# Altium schematic symbol library Basic.SchLib: 197 symbols
Pins are listed as number, name and electrical type; pins without a type are passive.

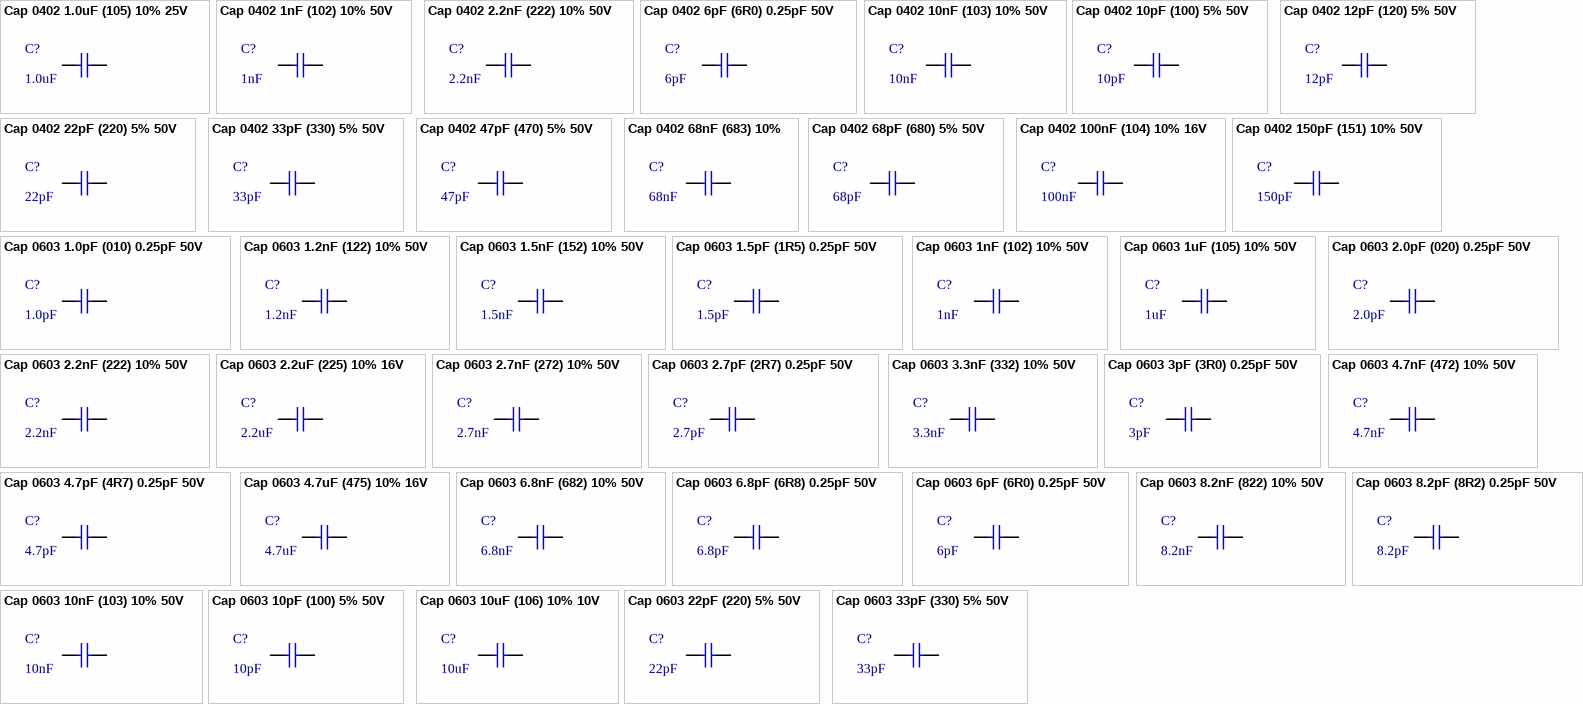
[diagram p0: symbols Cap 0402 1.0uF (105) 10% 25V to Cap 0603 33pF (330) 5% 50V]

## Cap 0402 1.0uF (105) 10% 25V
designator C?, comment 1.0uF
贴片电容; ComponentLink1Description: 供应商链接; ComponentLink1URL: http://www.szlcsc.com/product/details_53938.html; Package: 0402; Value: 1.0uF
footprint 0402_C
pins: 1, 2

## Cap 0402 1nF (102) 10% 50V
designator C?, comment 1nF
贴片电容; ComponentLink1Description: 供应商链接; ComponentLink1URL: http://www.szlcsc.com/product/details_1875.html; Package: 0402; Supplier: LC; SuppliersPartNumber: C1523; Value: 1nF
footprint 0402_C
pins: 1, 2

## Cap 0402 2.2nF (222) 10% 50V
designator C?, comment 2.2nF
贴片电容; ComponentLink1Description: 供应商链接; ComponentLink1URL: http://www.szlcsc.com/product/details_1883.html; Package: 0402; Value: 2.2nF
footprint 0402_C
pins: 1, 2

## Cap 0402 6pF (6R0) 0.25pF 50V
designator C?, comment 6pF
贴片电容; ComponentLink1Description: 供应商链接; ComponentLink1URL: http://www.szlcsc.com/product/details_31031.html; Package: 0402; Supplier: LC; SuppliersPartNumber: C30274
footprint 0402_C
pins: 1, 2

## Cap 0402 10nF (103) 10% 50V
designator C?, comment 10nF
贴片电容; ComponentLink1Description: 供应商链接; ComponentLink1URL: http://www.szlcsc.com/product/details_15869.html; Package: 0402; Supplier: LC; SuppliersPartNumber: C15195; Value: 10nF
footprint 0402_C
pins: 1, 2

## Cap 0402 10pF (100) 5% 50V
designator C?, comment 10pF
贴片电容; ComponentLink1Description: 供应商链接; ComponentLink1URL: http://www.szlcsc.com/product/details_33914.html; Package: 0402; Supplier: LC; SuppliersPartNumber: C32949
footprint 0402_C
pins: 1, 2

## Cap 0402 12pF (120) 5% 50V
designator C?, comment 12pF
贴片电容; ComponentLink1Description: 供应商链接; ComponentLink1URL: http://www.szlcsc.com/product/details_1899.html; Package: 0402; Supplier: LC; SuppliersPartNumber: C1547; Value: 12pF
footprint 0402_C
pins: 1, 2

## Cap 0402 22pF (220) 5% 50V
designator C?, comment 22pF
贴片电容; ComponentLink1Description: 供应商链接; ComponentLink1URL: http://www.szlcsc.com/product/details_1907.html; Package: 0402; Supplier: LC; SuppliersPartNumber: C1555
footprint 0402_C
pins: 1, 2

## Cap 0402 33pF (330) 5% 50V
designator C?, comment 33pF
贴片电容; ComponentLink1Description: 供应商链接; ComponentLink1URL: http://www.szlcsc.com/product/details_1914.html; Package: 0402; Supplier: LC; SuppliersPartNumber: C1562
footprint 0402_C
pins: 1, 2

## Cap 0402 47pF (470) 5% 50V
designator C?, comment 47pF
贴片电容; ComponentLink1Description: 供应商链接; ComponentLink1URL: http://www.szlcsc.com/product/details_1919.html; Package: 0402; Supplier: LC; SuppliersPartNumber: C1567; Value: 47pF
footprint 0402_C
pins: 1, 2

## Cap 0402 68nF (683) 10%
designator C?, comment 68nF
贴片电容; ComponentLink1Description: 供应商链接; ComponentLink1URL: http://www.szlcsc.com/product/details_2108.html; Package: 0402; Supplier: LC; SuppliersPartNumber: C1756; Value: 68nF
footprint 0402_C
pins: 1, 2

## Cap 0402 68pF (680) 5% 50V
designator C?, comment 68pF
贴片电容; ComponentLink1Description: 供应商链接; ComponentLink1URL: http://www.szlcsc.com/product/details_15103.html; Package: 0402; Supplier: LC; SuppliersPartNumber: C14441; Value: 68pF
footprint 0402_C
pins: 1, 2

## Cap 0402 100nF (104) 10% 16V
designator C?, comment 100nF
贴片电容; ComponentLink1Description: 供应商链接; ComponentLink1URL: http://www.szlcsc.com/product/details_1877.html; Package: 0402; Supplier: LC; SuppliersPartNumber: C1525
footprint 0402_C
pins: 1, 2

## Cap 0402 150pF (151) 10% 50V
designator C?, comment 150pF
贴片电容; ComponentLink1Description: 供应商链接; ComponentLink1URL: http://www.szlcsc.com/product/details_1879.html; Package: 0402; Supplier: LC; SuppliersPartNumber: C1527; Value: 150pF
footprint 0402_C
pins: 1, 2

## Cap 0603 1.0pF (010) 0.25pF 50V
designator C?, comment 1.0pF
贴片电容; ComponentLink1Description: 供应商链接; ComponentLink1URL: http://www.szlcsc.com/product/details_24709.html; Package: 0603; Supplier: LC; SuppliersPartNumber: C23969
footprint 0603_C
pins: 1, 2

## Cap 0603 1.2nF (122) 10% 50V
designator C?, comment 1.2nF
贴片电容; ComponentLink1Description: 供应商链接; ComponentLink1URL: http://www.szlcsc.com/product/details_31372.html; Package: 0603; Supplier: LC; SuppliersPartNumber: C30615
footprint 0603_C
pins: 1, 2

## Cap 0603 1.5nF (152) 10% 50V
designator C?, comment 1.5nF
贴片电容; ComponentLink1Description: 供应商链接; ComponentLink1URL: http://www.szlcsc.com/product/details_1947.html; Package: 0603; Supplier: LC; SuppliersPartNumber: C1595
footprint 0603_C
pins: 1, 2

## Cap 0603 1.5pF (1R5) 0.25pF 50V
designator C?, comment 1.5pF
贴片电容; ComponentLink1Description: 供应商链接; ComponentLink1URL: http://www.szlcsc.com/product/details_1991.html; Package: 0603; Supplier: LC; SuppliersPartNumber: C1639
footprint 0603_C
pins: 1, 2

## Cap 0603 1nF (102) 10% 50V
designator C?, comment 1nF
贴片电容; ComponentLink1Description: 供应商链接; ComponentLink1URL: http://www.szlcsc.com/product/details_1940.html; Package: 0603; Supplier: LC; SuppliersPartNumber: C1588
footprint 0603_C
pins: 1, 2

## Cap 0603 1uF (105) 10% 50V
designator C?, comment 1uF
贴片电容; ComponentLink1Description: 供应商链接; ComponentLink1URL: http://www.szlcsc.com/product/details_16531.html; Package: 0603; Supplier: LC; SuppliersPartNumber: C15849
footprint 0603_C
pins: 1, 2

## Cap 0603 2.0pF (020) 0.25pF 50V
designator C?, comment 2.0pF
贴片电容; ComponentLink1Description: 供应商链接; ComponentLink1URL: http://www.szlcsc.com/product/details_22617.html; Package: 0603; Supplier: LC; SuppliersPartNumber: C21895
footprint 0603_C
pins: 1, 2

## Cap 0603 2.2nF (222) 10% 50V
designator C?, comment 2.2nF
贴片电容; ComponentLink1Description: 供应商链接; ComponentLink1URL: http://www.szlcsc.com/product/details_1956.html; Package: 0603; Supplier: LC; SuppliersPartNumber: C1604
footprint 0603_C
pins: 1, 2

## Cap 0603 2.2uF (225) 10% 16V
designator C?, comment 2.2uF
贴片电容; ComponentLink1Description: 供应商链接; ComponentLink1URL: http://www.szlcsc.com/product/details_24366.html; Package: 0603; Supplier: LC; SuppliersPartNumber: C23630
footprint 0603_C
pins: 1, 2

## Cap 0603 2.7nF (272) 10% 50V
designator C?, comment 2.7nF
贴片电容; ComponentLink1Description: 供应商链接; ComponentLink1URL: http://www.szlcsc.com/product/details_1961.html; Package: 0603; Supplier: LC; SuppliersPartNumber: C1609
footprint 0603_C
pins: 1, 2

## Cap 0603 2.7pF (2R7) 0.25pF 50V
designator C?, comment 2.7pF
贴片电容; ComponentLink1Description: 供应商链接; ComponentLink1URL: http://www.szlcsc.com/product/details_16831.html; Package: 0603; Supplier: LC; SuppliersPartNumber: C16149
footprint 0603_C
pins: 1, 2

## Cap 0603 3.3nF (332) 10% 50V
designator C?, comment 3.3nF
贴片电容; ComponentLink1Description: 供应商链接; ComponentLink1URL: http://www.szlcsc.com/product/details_1965.html; Package: 0603; Supplier: LC; SuppliersPartNumber: C1613
footprint 0603_C
pins: 1, 2

## Cap 0603 3pF (3R0) 0.25pF 50V
designator C?, comment 3pF
贴片电容; ComponentLink1Description: 供应商链接; ComponentLink1URL: http://www.szlcsc.com/product/details_47222.html; Package: 0603; Supplier: LC; SuppliersPartNumber: C46219
footprint 0603_C
pins: 1, 2

## Cap 0603 4.7nF (472) 10% 50V
designator C?, comment 4.7nF
贴片电容; ComponentLink1Description: 供应商链接; ComponentLink1URL: http://www.szlcsc.com/product/details_55004.html; Package: 0603; Supplier: LC; SuppliersPartNumber: C53987
footprint 0603_C
pins: 1, 2

## Cap 0603 4.7pF (4R7) 0.25pF 50V
designator C?, comment 4.7pF
贴片电容; ComponentLink1Description: 供应商链接; ComponentLink1URL: http://www.szlcsc.com/product/details_2021.html; Package: 0603; Supplier: LC; SuppliersPartNumber: C1669
footprint 0603_C
pins: 1, 2

## Cap 0603 4.7uF (475) 10% 16V
designator C?, comment 4.7uF
贴片电容; ComponentLink1Description: 供应商链接; ComponentLink1URL: http://www.szlcsc.com/product/details_20375.html; Package: 0603; Supplier: LC; SuppliersPartNumber: C19666
footprint 0603_C
pins: 1, 2

## Cap 0603 6.8nF (682) 10% 50V
designator C?, comment 6.8nF
贴片电容; ComponentLink1Description: 供应商链接; ComponentLink1URL: http://www.szlcsc.com/product/details_1983.html; Package: 0603; Supplier: LC; SuppliersPartNumber: C1631
footprint 0603_C
pins: 1, 2

## Cap 0603 6.8pF (6R8) 0.25pF 50V
designator C?, comment 6.8pF
贴片电容; ComponentLink1Description: 供应商链接; ComponentLink1URL: http://www.szlcsc.com/product/details_2031.html; Package: 0603; Supplier: LC; SuppliersPartNumber: C1679
footprint 0603_C
pins: 1, 2

## Cap 0603 6pF (6R0) 0.25pF 50V
designator C?, comment 6pF
贴片电容; ComponentLink1Description: 供应商链接; ComponentLink1URL: http://www.szlcsc.com/product/details_38453.html; Package: 0603; Supplier: LC; SuppliersPartNumber: C37474
footprint 0603_C
pins: 1, 2

## Cap 0603 8.2nF (822) 10% 50V
designator C?, comment 8.2nF
贴片电容; ComponentLink1Description: 供应商链接; ComponentLink1URL: http://www.szlcsc.com/product/details_28670.html; Package: 0603; Supplier: LC; SuppliersPartNumber: C27920
footprint 0603_C
pins: 1, 2

## Cap 0603 8.2pF (8R2) 0.25pF 50V
designator C?, comment 8.2pF
贴片电容; ComponentLink1Description: 供应商链接; ComponentLink1URL: http://www.szlcsc.com/product/details_2037.html; Package: 0603; Supplier: LC; SuppliersPartNumber: C1685
footprint 0603_C
pins: 1, 2

## Cap 0603 10nF (103) 10% 50V
designator C?, comment 10nF
贴片电容; ComponentLink1Description: 供应商链接; ComponentLink1URL: http://www.szlcsc.com/product/details_58143.html; Package: 0603; Supplier: LC; SuppliersPartNumber: C57112
footprint 0603_C
pins: 1, 2

## Cap 0603 10pF (100) 5% 50V
designator C?, comment 10pF
贴片电容; ComponentLink1Description: 供应商链接; ComponentLink1URL: http://www.szlcsc.com/product/details_1986.html; Package: 0603; Supplier: LC; SuppliersPartNumber: C1634
footprint 0603_C
pins: 1, 2

## Cap 0603 10uF (106) 10% 10V
designator C?, comment 10uF
贴片电容; ComponentLink1Description: 供应商链接; ComponentLink1URL: http://www.szlcsc.com/product/details_20411.html; Package: 0603; Supplier: LC; SuppliersPartNumber: C19702
footprint 0603_C
pins: 1, 2

## Cap 0603 22pF (220) 5% 50V
designator C?, comment 22pF
贴片电容; ComponentLink1Description: 供应商链接; ComponentLink1URL: http://www.szlcsc.com/product/details_2005.html; Package: 0603; Supplier: LC; SuppliersPartNumber: C1653
footprint 0603_C
pins: 1, 2

## Cap 0603 33pF (330) 5% 50V
designator C?, comment 33pF
贴片电容; ComponentLink1Description: 供应商链接; ComponentLink1URL: http://www.szlcsc.com/product/details_2015.html; Package: 0603; Supplier: LC; SuppliersPartNumber: C1663
footprint 0603_C
pins: 1, 2

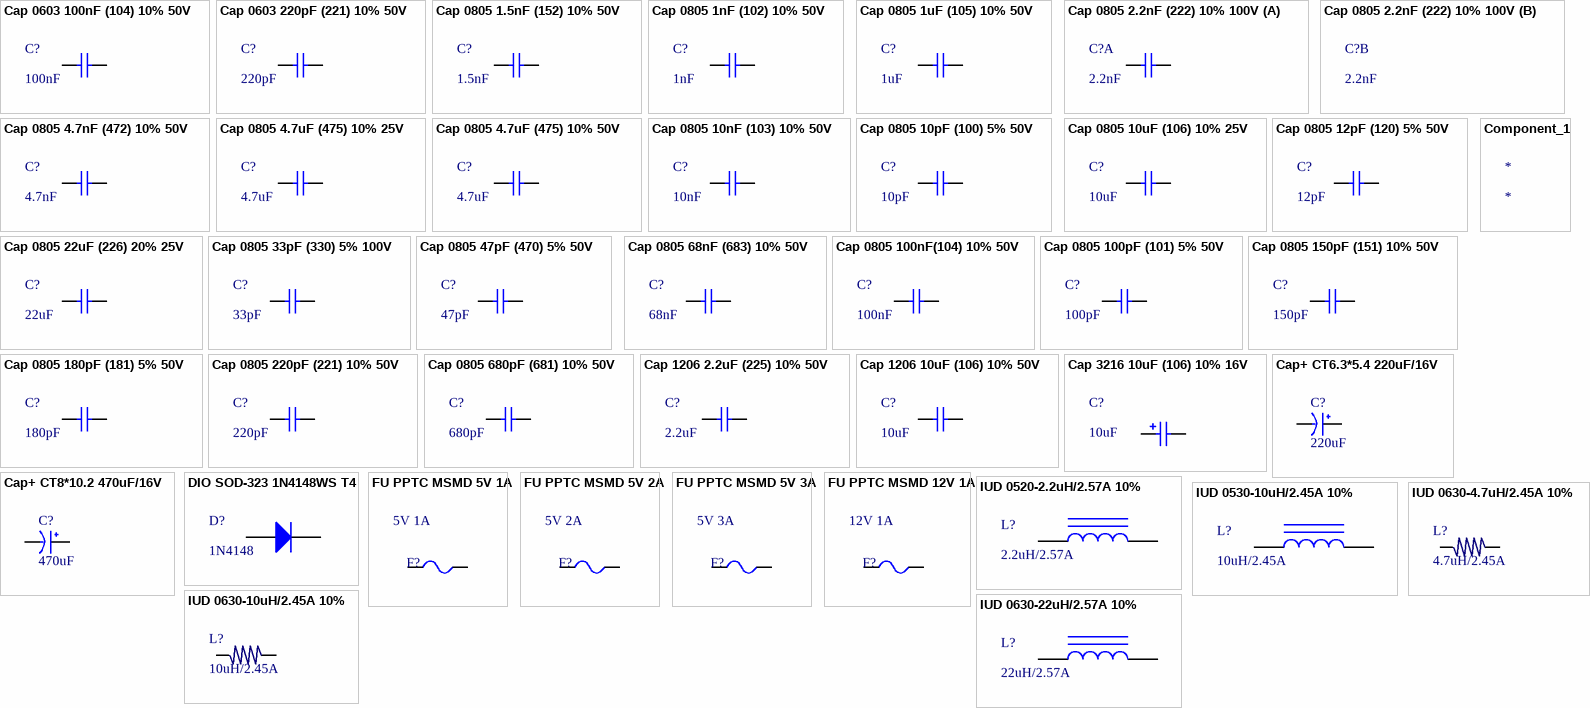
[diagram p1: symbols Cap 0603 100nF (104) 10% 50V to IUD 0630-22uH/2.57A 10%]

## Cap 0603 100nF (104) 10% 50V
designator C?, comment 100nF
贴片电容; ComponentLink1Description: 供应商链接; ComponentLink1URL: http://www.szlcsc.com/product/details_15331.html; Package: 0603; Supplier: LC; SuppliersPartNumber: C14663
footprint 0603_C
pins: 1, 2

## Cap 0603 220pF (221) 10% 50V
designator C?, comment 220pF
贴片电容; ComponentLink1Description: 供应商链接; ComponentLink1URL: http://www.szlcsc.com/product/details_1955.html; Package: 0603; Supplier: LC; SuppliersPartNumber: C1603
footprint 0603_C
pins: 1, 2

## Cap 0805 1.5nF (152) 10% 50V
designator C?, comment 1.5nF
贴片电容; ComponentLink1Description: 供应商链接; ComponentLink1URL: http://www.szlcsc.com/product/details_2069.html; Package: 0805; Supplier: LC; SuppliersPartNumber: C1717; Value: 1.5nF
footprint 0805_C
pins: 1, 2

## Cap 0805 1nF (102) 10% 50V
designator C?, comment 1nF
贴片电容; ComponentLink1Description: 供应商链接; ComponentLink1URL: http://www.szlcsc.com/product/details_52223.html; Package: 0805; Value: 1nF
footprint 0805_C
pins: 1, 2

## Cap 0805 1uF (105) 10% 50V
designator C?, comment 1uF
贴片电容; ComponentLink1Description: 供应商链接; ComponentLink1URL: http://www.szlcsc.com/product/details_29074.html; Package: 0805; Supplier: LC; SuppliersPartNumber: C28323
footprint 0805_C
pins: 1, 2

## Cap 0805 2.2nF (222) 10% 100V
designator C?, comment 2.2nF
贴片电容; ComponentLink1Description: 供应商链接; ComponentLink1URL: http://www.szlcsc.com/product/details_29010.html; Package: 0805; Supplier: LC; SuppliersPartNumber: C28260; Value: 2.2nF
footprint 0805_C
part A pins: 1, 2

## Cap 0805 4.7nF (472) 10% 50V
designator C?, comment 4.7nF
贴片电容; ComponentLink1Description: 供应商链接; ComponentLink1URL: http://www.szlcsc.com/product/details_2096.html; Package: 0805; Supplier: LC; SuppliersPartNumber: C1744
footprint 0805_C
pins: 1, 2

## Cap 0805 4.7uF (475) 10% 25V
designator C?, comment 4.7uF
贴片电容; Value: 4.7uF/25V; ComponentLink1Description: 供应商链接; ComponentLink1URL: http://www.szlcsc.com/product/details_2131.html; Package: 0805; Supplier: LC; SuppliersPartNumber: C1779
footprint 0805_C
pins: 1, 2

## Cap 0805 4.7uF (475) 10% 50V
designator C?, comment 4.7uF
贴片电容; Value: 4.7uF/50V; ComponentLink1Description: 供应商链接; ComponentLink1URL: http://www.szlcsc.com/product/details_2131.html; Package: 0805; Supplier: LC; SuppliersPartNumber: C1779
footprint 0805_C
pins: 1, 2

## Cap 0805 10nF (103) 10% 50V
designator C?, comment 10nF
贴片电容; ComponentLink1Description: 供应商链接; ComponentLink1URL: http://www.szlcsc.com/product/details_2062.html; Package: 0805; Supplier: LC; SuppliersPartNumber: C1710; Value: 10nF
footprint 0805_C
pins: 1, 2

## Cap 0805 10pF (100) 5% 50V
designator C?, comment 10pF
贴片电容; ComponentLink1Description: 供应商链接; ComponentLink1URL: http://www.szlcsc.com/product/details_2137.html; Package: 0805; Supplier: LC; SuppliersPartNumber: C1785; Value: 10pF
footprint 0805_C
pins: 1, 2

## Cap 0805 10uF (106) 10% 25V
designator C?, comment 10uF
贴片电容; ComponentLink1Description: 供应商链接; ComponentLink1URL: http://www.szlcsc.com/product/details_16532.html; Package: 0805; Supplier: LC; SuppliersPartNumber: C15850; Value: 10uF
footprint 0805_C
pins: 1, 2

## Cap 0805 12pF (120) 5% 50V
designator C?, comment 12pF
贴片电容; ComponentLink1Description: 供应商链接; ComponentLink1URL: http://www.szlcsc.com/product/details_2144.html; Package: 0805; Supplier: LC; SuppliersPartNumber: C1792
footprint 0805_C
pins: 1, 2

## Cap 0805 22uF (226) 20% 25V
designator C?, comment 22uF
贴片电容; ComponentLink1Description: 供应商链接; ComponentLink1URL: http://www.szlcsc.com/product/details_46786.html; Package: 0805; Supplier: LC; SuppliersPartNumber: C45783
footprint 0805_C
pins: 1, 2

## Cap 0805 33pF (330) 5% 100V
designator C?, comment 33pF
贴片电容; ComponentLink1Description: 供应商链接; ComponentLink1URL: http://www.szlcsc.com/product/details_2166.html; Package: 0805; Supplier: LC; SuppliersPartNumber: C1814; Value: 33pF
footprint 0805_C
pins: 1, 2

## Cap 0805 47pF (470) 5% 50V
designator C?, comment 47pF
贴片电容; ComponentLink1Description: 供应商链接; ComponentLink1URL: http://www.szlcsc.com/product/details_15529.html; Package: 0805; Value: 47pF
footprint 0805_C
pins: 1, 2

## Cap 0805 68nF (683) 10% 50V
designator C?, comment 68nF
贴片电容; ComponentLink1Description: 供应商链接; ComponentLink1URL: http://www.szlcsc.com/product/details_2108.html; Package: 0805; Supplier: LC; SuppliersPartNumber: C1756; Value: 68nF
footprint 0805_C
pins: 1, 2

## Cap 0805 100nF(104) 10% 50V
designator C?, comment 100nF
贴片电容; ComponentLink1Description: 供应商链接; ComponentLink1URL: http://www.szlcsc.com/product/details_50686.html; Package: 0805; Supplier: LC; SuppliersPartNumber: C49678; Value: 100nF
footprint 0805_C
pins: 1, 2

## Cap 0805 100pF (101) 5% 50V
designator C?, comment 100pF
贴片电容; ComponentLink1Description: 供应商链接; ComponentLink1URL: http://www.szlcsc.com/product/details_2142.html; Package: 0805; Supplier: LC; SuppliersPartNumber: C1790
footprint 0805_C
pins: 1, 2

## Cap 0805 150pF (151) 10% 50V
designator C?, comment 150pF
贴片电容; ComponentLink1Description: 供应商链接; ComponentLink1URL: http://www.szlcsc.com/product/details_2068.html; Package: 0805; Value: 150pF
footprint 0805_C
pins: 1, 2

## Cap 0805 180pF (181) 5% 50V
designator C?, comment 180pF
贴片电容; ComponentLink1Description: 供应商链接; ComponentLink1URL: http://www.szlcsc.com/product/details_2149.html; Package: 0805; Supplier: LC; SuppliersPartNumber: C1797; Value: 180pF
footprint 0805_C
pins: 1, 2

## Cap 0805 220pF (221) 10% 50V
designator C?, comment 220pF
贴片电容; ComponentLink1Description: 供应商链接; ComponentLink1URL: http://www.szlcsc.com/product/details_54188.html; Package: 0805; Supplier: LC; SuppliersPartNumber: C53172; Value: 220pF
footprint 0805_C
pins: 1, 2

## Cap 0805 680pF (681) 10% 50V
designator C?, comment 680pF
贴片电容; ComponentLink1Description: 供应商链接; ComponentLink1URL: http://www.szlcsc.com/product/details_54166.html; Package: 0805; Value: 680pF
footprint 0805_C
pins: 1, 2

## Cap 1206 2.2uF (225) 10% 50V
designator C?, comment 2.2uF
贴片电容; ComponentLink1Description: 供应商链接; ComponentLink1URL: http://www.szlcsc.com/product/details_13292.html; Package: 1206; Supplier: LC; SuppliersPartNumber: C12656; Value: 2.2uF
footprint 1206_C
pins: 1, 2

## Cap 1206 10uF (106) 10% 50V
designator C?, comment 10uF
贴片电容; ComponentLink1Description: 供应商链接; ComponentLink1URL: http://www.szlcsc.com/product/details_14236.html; Package: 1206; Supplier: LC; SuppliersPartNumber: C13585
footprint 1206_C
pins: 1, 2

## Cap 3216 10uF (106) 10% 16V
designator C?, comment 10uF
钽电容; ComponentLink1Description: 供应商链接; ComponentLink1URL: http://www.szlcsc.com/product/details_7643.html; Package: 3216; Supplier: LC; SuppliersPartNumber: C7171
footprint CASE-A_3216
pins: 1, 2

## Cap+ CT6.3*5.4 220uF/16V
designator C?, comment 220uF
电解电容
footprint CT 6*6 - C (直径6mm，高6mm)
pins: 1 VCC, 2 GND

## Cap+ CT8*10.2 470uF/16V
designator C?, comment 470uF
电解电容
footprint CT 8*7 - C (直径8mm，高7mm)
pins: 1 VCC, 2 GND

## Component_1
designator *

## DIO SOD-323 1N4148WS T4
designator D?, comment 1N4148
二极管; ComponentLink1Description: 供应商链接; ComponentLink1URL: http://www.szlcsc.com/product/details_2485.html; Package: SOD-323; Supplier: LC; SuppliersPartNumber: C2128
footprint SOD-323
pins: 1 A, 2 K

## FU PPTC MSMD 5V 1A
designator F?, comment 5V 1A
自恢复保险丝; BOM名称: 贴片保险丝; 版权归属: 源创客; 学习资源: www.ooocke.com
footprint FU 0402 (贴片保险丝)
footprint FU 0603 (贴片保险丝)
footprint FU 0805 (贴片保险丝)
footprint FU 1206 (贴片保险丝)
footprint FU 1210 (贴片保险丝)
footprint FU 1812 (贴片保险丝)
pins: 1, 2

## FU PPTC MSMD 5V 2A
designator F?, comment 5V 2A
自恢复保险丝; BOM名称: 贴片保险丝; 版权归属: 源创客; 学习资源: www.ooocke.com
footprint FU 0402 (贴片保险丝)
footprint FU 0603 (贴片保险丝)
footprint FU 0805 (贴片保险丝)
footprint FU 1206 (贴片保险丝)
footprint FU 1210 (贴片保险丝)
footprint FU 1812 (贴片保险丝)
pins: 1, 2

## FU PPTC MSMD 5V 3A
designator F?, comment 5V 3A
自恢复保险丝; BOM名称: 贴片保险丝; 版权归属: 源创客; 学习资源: www.ooocke.com
footprint FU 0402 (贴片保险丝)
footprint FU 0603 (贴片保险丝)
footprint FU 0805 (贴片保险丝)
footprint FU 1206 (贴片保险丝)
footprint FU 1210 (贴片保险丝)
footprint FU 1812 (贴片保险丝)
pins: 1, 2

## FU PPTC MSMD 12V 1A
designator F?, comment 12V 1A
自恢复保险丝; BOM名称: 贴片保险丝; 版权归属: 源创客; 学习资源: www.ooocke.com
footprint FU 0402 (贴片保险丝)
footprint FU 0603 (贴片保险丝)
footprint FU 0805 (贴片保险丝)
footprint FU 1206 (贴片保险丝)
footprint FU 1210 (贴片保险丝)
footprint FU 1812 (贴片保险丝)
pins: 1, 2

## IUD 0520-2.2uH/2.57A 10%
designator L?, comment 2.2uH/2.57A
一体成型贴片电感; ComponentLink1Description: 供应商链接; ComponentLink1URL: http://www.szlcsc.com/product/details_1387.html; Value: 2.2uH/2.57A
footprint L_0520_ (AMPI053 0ED; 5.2*5.4*2.8)
pins: 1, 2

## IUD 0530-10uH/2.45A 10%
designator L?, comment 10uH/2.45A
一体成型贴片电感; ComponentLink1Description: 供应商链接; ComponentLink1URL: http://www.szlcsc.com/product/details_12684.html; Value: 10uH/2.45A
footprint L_0530 (AMPI063 0ED; 6.6*7.1*0.3)
pins: 1, 2

## IUD 0630-4.7uH/2.45A 10%
designator L?, comment 4.7uH/2.45A
一体成型贴片电感; Value: 10uH/2.45A; ComponentLink1Description: 供应商链接; ComponentLink1URL: http://www.szlcsc.com/product/details_12684.html
footprint L_0630 (AMPI063 0ED; 6.6*7.1*0.3)
pins: 1, 2

## IUD 0630-10uH/2.45A 10%
designator L?, comment 10uH/2.45A
一体成型贴片电感; ComponentLink1Description: 供应商链接; ComponentLink1URL: http://www.szlcsc.com/product/details_12684.html; Value: 10uH/2.45A
footprint L_0630 (AMPI063 0ED; 6.6*7.1*0.3)
pins: 1, 2

## IUD 0630-22uH/2.57A 10%
designator L?, comment 22uH/2.57A
一体成型贴片电感; ComponentLink1Description: 供应商链接; ComponentLink1URL: http://www.szlcsc.com/product/details_1387.html; Value: 22uH/2.57A
footprint L_0630 (AMPI063 0ED; 6.6*7.1*0.3)
pins: 1, 2

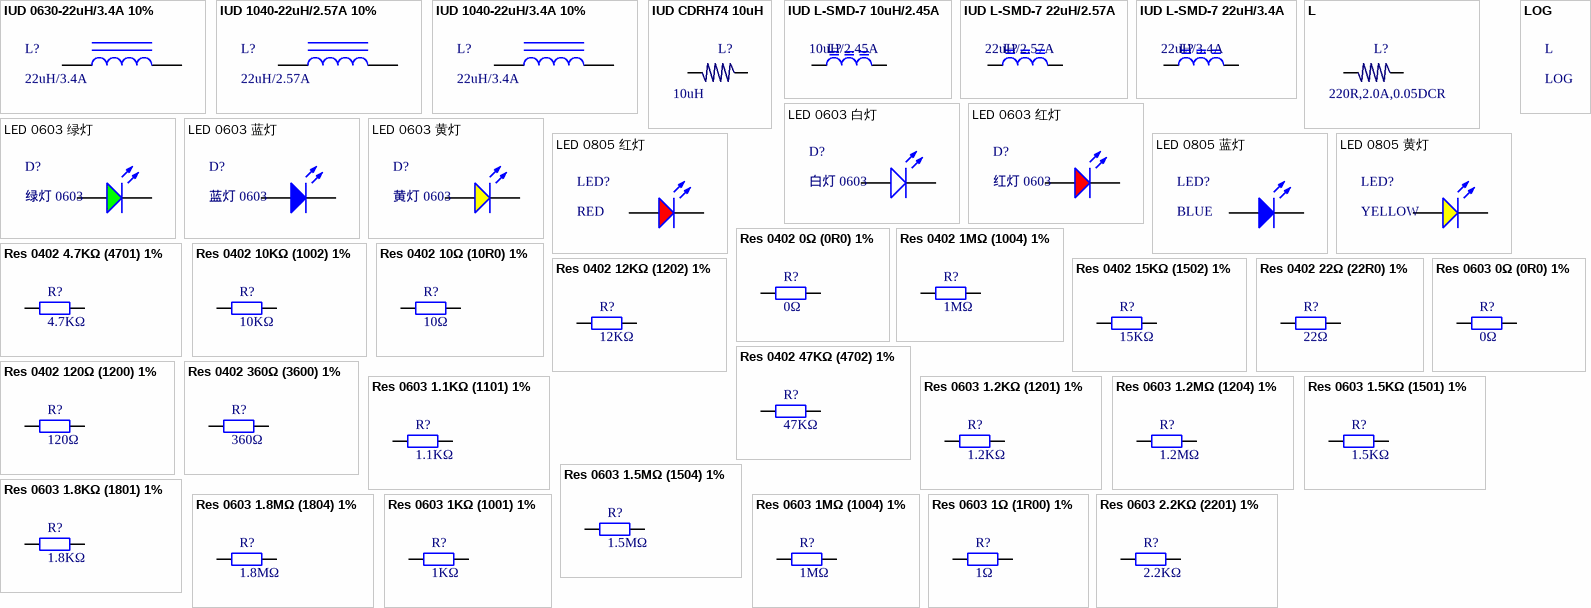
[diagram p2: symbols IUD 0630-22uH/3.4A 10% to Res 0603 2.2KΩ (2201) 1%]

## IUD 0630-22uH/3.4A 10%
designator L?, comment 22uH/3.4A
一体成型贴片电感; ComponentLink1Description: 供应商链接; ComponentLink1URL: http://www.szlcsc.com/product/details_1387.html; Value: 22uH/3.4A
footprint L_0630 (AMPI063 0ED; 6.6*7.1*0.3)
pins: 1, 2

## IUD 1040-22uH/2.57A 10%
designator L?, comment 22uH/2.57A
一体成型贴片电感; ComponentLink1Description: 供应商链接; ComponentLink1URL: http://www.szlcsc.com/product/details_1387.html; Value: 22uH/2.57A
footprint L_1040 (AMPI104 0ED; 10*11.5*3.8)
pins: 1, 2

## IUD 1040-22uH/3.4A 10%
designator L?, comment 22uH/3.4A
一体成型贴片电感; ComponentLink1Description: 供应商链接; ComponentLink1URL: http://www.szlcsc.com/product/details_1387.html; Value: 22uH/3.4A
footprint L_1040 (AMPI104 0ED; 10*11.5*3.8)
pins: 1, 2

## IUD CDRH74 10uH
designator L?, comment 10uH
IUD CDRH74 10uH
footprint CDRH74 (7.3*7.3*4.5mm（长宽高）)
pins: 1, 2

## IUD L-SMD-7 10uH/2.45A
designator L?, comment 10uH/2.45A
电感; Code_IEC: 1005; Published: 8-Jun-2000; LatestRevisionDate: 17-Jul-2002; LatestRevisionNote: Re-released for DXP Platform.; PackageReference: 0402-A; Publisher: Altium Limited; Code_JEITA: 0402; Value: 10uH/2.45A
footprint L-SMD-7 (贴片电感7*7)
pins: 1, 2

## IUD L-SMD-7 22uH/2.57A
designator L?, comment 22uH/2.57A
电感; Code_IEC: 1005; Value: 10uH/2.45A; Published: 8-Jun-2000; LatestRevisionDate: 17-Jul-2002; LatestRevisionNote: Re-released for DXP Platform.; PackageReference: 0402-A; Publisher: Altium Limited; Code_JEITA: 0402
footprint L-SMD-7 (贴片电感7*7)
pins: 1, 2

## IUD L-SMD-7 22uH/3.4A
designator L?, comment 22uH/3.4A
电感; Code_IEC: 1005; Published: 8-Jun-2000; LatestRevisionDate: 17-Jul-2002; LatestRevisionNote: Re-released for DXP Platform.; Publisher: Altium Limited; Code_JEITA: 0402; Value: 22uH/3.4A
footprint L-SMD-7 (贴片电感7*7)
pins: 1, 2

## L
designator L?, comment 220R,2.0A,0.05DCR
footprint L3A (L)
footprint L4.7
footprint L_USER (SELF_DEF)
footprint L10 (10mH)
footprint SMD7850
footprint 0805
footprint 1206
footprint L_SOPL (L_LARGE)
footprint L_CD43 (4mm*4mm)
footprint 0603P
footprint L_SOP4 (4mm*4mm*1.7mm)
pins: 1, 2

## LED 0603 白灯
designator D?, comment 白灯 0603
发光二极管; ComponentLink1Description: 供应商链接; ComponentLink1URL: http://www.szlcsc.com/product/details_2663.html; Package: 0603; Supplier: LC; SuppliersPartNumber: C2290
footprint 0603_LED_S1
pins: A, K

## LED 0603 红灯
designator D?, comment 红灯 0603
发光二极管; ComponentLink1Description: 供应商链接; ComponentLink1URL: http://www.szlcsc.com/product/details_2659.html; Package: 0603; Supplier: LC; SuppliersPartNumber: C2286
footprint 0603_LED_S1
pins: A, K

## LED 0603 绿灯
designator D?, comment 绿灯 0603
发光二极管; ComponentLink1Description: 供应商链接; ComponentLink1URL: http://www.szlcsc.com/product/details_73152.html; Package: 0603; Supplier: LC; SuppliersPartNumber: C72043
footprint 0603_LED_S1
pins: A, K

## LED 0603 蓝灯
designator D?, comment 蓝灯 0603
发光二极管; ComponentLink1Description: 供应商链接; ComponentLink1URL: http://www.szlcsc.com/product/details_73150.html; Package: 0603; Supplier: LC; SuppliersPartNumber: C72041
footprint 0603_LED_S1
pins: A, K

## LED 0603 黄灯
designator D?, comment 黄灯 0603
发光二极管; ComponentLink1Description: 供应商链接; ComponentLink1URL: http://www.szlcsc.com/product/details_73147.html; Package: 0603; Supplier: LC; SuppliersPartNumber: C72038
footprint 0603_LED_S1
pins: A, K

## LED 0805 红灯
designator LED?, comment RED
发光二极管; ComponentLink1Description: 供应商链接; ComponentLink1URL: http://www.szlcsc.com/product/details_2668.html; Package: 0805; Supplier: LC; SuppliersPartNumber: C2295
footprint 0805_LED_S1
pins: A, K

## LED 0805 蓝灯
designator LED?, comment BLUE
发光二极管; ComponentLink1Description: 供应商链接; ComponentLink1URL: http://www.szlcsc.com/product/details_2666.html; Package: 0805; Supplier: LC; SuppliersPartNumber: C2293
footprint 0805_LED_S1
pins: A, K

## LED 0805 黄灯
designator LED?, comment YELLOW
发光二极管; ComponentLink1Description: 供应商链接; ComponentLink1URL: http://www.szlcsc.com/product/details_2669.html; Package: 0805; Supplier: LC; SuppliersPartNumber: C2296
footprint 0805_LED_S1
pins: A, K

## LOG
designator L
footprint LOG_L

## Res 0402 0Ω (0R0) 1%
designator R?, comment 0Ω
贴片电阻; ComponentLink1Description: 供应商链接; ComponentLink1URL: http://www.szlcsc.com/product/details_17853.html; Package: 0402; Supplier: LC; SuppliersPartNumber: C17168; Value: 0Ω
footprint 0402_R
pins: 1, 2

## Res 0402 1MΩ (1004) 1%
designator R?, comment 1MΩ
贴片电阻; ComponentLink1Description: 供应商链接; ComponentLink1URL: http://www.szlcsc.com/product/details_26826.html; Package: 0402; Supplier: LC; SuppliersPartNumber: C26083; Value: 1MΩ
footprint 0402_R
pins: 1, 2

## Res 0402 4.7KΩ (4701) 1%
designator R?, comment 4.7KΩ
贴片电阻; ComponentLink1Description: 供应商链接; ComponentLink1URL: http://www.szlcsc.com/product/details_26643.html; Package: 0402; Supplier: LC; SuppliersPartNumber: C25900; Value: 4.7KΩ
footprint 0402_R
pins: 1, 2

## Res 0402 10KΩ (1002) 1%
designator R?, comment 10KΩ
贴片电阻; ComponentLink1Description: 供应商链接; ComponentLink1URL: http://www.szlcsc.com/product/details_26487.html; Package: 0402; Supplier: LC; SuppliersPartNumber: C25744; Value: 10KΩ
footprint 0402_R
pins: 1, 2

## Res 0402 10Ω (10R0) 1%
designator R?, comment 10Ω
贴片电阻; ComponentLink1Description: 供应商链接; ComponentLink1URL: http://www.szlcsc.com/product/details_25820.html; Package: 0402; Supplier: LC; SuppliersPartNumber: C25077
footprint 0402_R
pins: 1, 2

## Res 0402 12KΩ (1202) 1%
designator R?, comment 12KΩ
贴片电阻; ComponentLink1Description: 供应商链接; ComponentLink1URL: http://www.szlcsc.com/product/details_26495.html; Package: 0402; Supplier: LC; SuppliersPartNumber: C25752; Value: 12KΩ
footprint 0402_R
pins: 1, 2

## Res 0402 15KΩ (1502) 1%
designator R?, comment 15KΩ
贴片电阻; ComponentLink1Description: 供应商链接; ComponentLink1URL: http://www.szlcsc.com/product/details_26499.html; Package: 0402; Supplier: LC; SuppliersPartNumber: C25756
footprint 0402_R
pins: 1, 2

## Res 0402 22Ω (22R0) 1%
designator R?, comment 22Ω
贴片电阻; ComponentLink1Description: 供应商链接; ComponentLink1URL: http://www.szlcsc.com/product/details_25835.html; Package: 0402; Supplier: LC; SuppliersPartNumber: C25092; Value: 22Ω
footprint 0402_R
pins: 1, 2

## Res 0402 47KΩ (4702) 1%
designator R?, comment 47KΩ
贴片电阻; ComponentLink1Description: 供应商链接; ComponentLink1URL: http://www.szlcsc.com/product/details_26535.html; Package: 0402; Supplier: LC; SuppliersPartNumber: C25792
footprint 0402_R
pins: 1, 2

## Res 0402 120Ω (1200) 1%
designator R?, comment 120Ω
贴片电阻; ComponentLink1Description: 供应商链接; ComponentLink1URL: http://www.szlcsc.com/product/details_25822.html; Package: 0402; Supplier: LC; SuppliersPartNumber: C25079
footprint 0402_R
pins: 1, 2

## Res 0402 360Ω (3600) 1%
designator R?, comment 360Ω
贴片电阻; ComponentLink1Description: 供应商链接; ComponentLink1URL: http://www.szlcsc.com/product/details_25822.html; Package: 0402; Supplier: LC; SuppliersPartNumber: C25079
footprint 0402_R
pins: 1, 2

## Res 0603 0Ω (0R0) 1%
designator R?, comment 0Ω
贴片电阻; ComponentLink1Description: 供应商链接; ComponentLink1URL: http://www.szlcsc.com/product/details_21903.html; Package: 0603; Supplier: LC; SuppliersPartNumber: C21189
footprint 0603_R
pins: 1, 2

## Res 0603 1.1KΩ (1101) 1%
designator R?, comment 1.1KΩ
贴片电阻; ComponentLink1Description: 供应商链接; ComponentLink1URL: http://www.szlcsc.com/product/details_23491.html; Package: 0603; Supplier: LC; SuppliersPartNumber: C22764
footprint 0603_R
pins: 1, 2

## Res 0603 1.2KΩ (1201) 1%
designator R?, comment 1.2KΩ
贴片电阻; ComponentLink1Description: 供应商链接; ComponentLink1URL: http://www.szlcsc.com/product/details_23492.html; Package: 0603; Supplier: LC; SuppliersPartNumber: C22765
footprint 0603_R
pins: 1, 2

## Res 0603 1.2MΩ (1204) 1%
designator R?, comment 1.2MΩ
贴片电阻; ComponentLink1Description: 供应商链接; ComponentLink1URL: http://www.szlcsc.com/product/details_23493.html; Package: 0603; Supplier: LC; SuppliersPartNumber: C22766
footprint 0603_R
pins: 1, 2

## Res 0603 1.5KΩ (1501) 1%
designator R?, comment 1.5KΩ
贴片电阻; ComponentLink1Description: 供应商链接; ComponentLink1URL: http://www.szlcsc.com/product/details_23570.html; Package: 0603; Supplier: LC; SuppliersPartNumber: C22843
footprint 0603_R
pins: 1, 2

## Res 0603 1.5MΩ (1504) 1%
designator R?, comment 1.5MΩ
贴片电阻; ComponentLink1Description: 供应商链接; ComponentLink1URL: http://www.szlcsc.com/product/details_4579.html; Package: 0603; Supplier: LC; SuppliersPartNumber: C4172
footprint 0603_R
pins: 1, 2

## Res 0603 1.8KΩ (1801) 1%
designator R?, comment 1.8KΩ
贴片电阻; ComponentLink1Description: 供应商链接; ComponentLink1URL: http://www.szlcsc.com/product/details_4584.html; Package: 0603; Supplier: LC; SuppliersPartNumber: C4177
footprint 0603_R
pins: 1, 2

## Res 0603 1.8MΩ (1804) 1%
designator R?, comment 1.8MΩ
贴片电阻; ComponentLink1Description: 供应商链接; ComponentLink1URL: http://www.szlcsc.com/product/details_23579.html; Package: 0603; Supplier: LC; SuppliersPartNumber: C22852
footprint 0603_R
pins: 1, 2

## Res 0603 1KΩ (1001) 1%
designator R?, comment 1KΩ
贴片电阻; ComponentLink1Description: 供应商链接; ComponentLink1URL: http://www.szlcsc.com/product/details_21904.html; Package: 0603; Supplier: LC; SuppliersPartNumber: C21190
footprint 0603_R
pins: 1, 2

## Res 0603 1MΩ (1004) 1%
designator R?, comment 1MΩ
贴片电阻; ComponentLink1Description: 供应商链接; ComponentLink1URL: http://www.szlcsc.com/product/details_23662.html; Package: 0603; Supplier: LC; SuppliersPartNumber: C22935
footprint 0603_R
pins: 1, 2

## Res 0603 1Ω (1R00) 1%
designator R?, comment 1Ω
贴片电阻; ComponentLink1Description: 供应商链接; ComponentLink1URL: http://www.szlcsc.com/product/details_23663.html; Package: 0603; Supplier: LC; SuppliersPartNumber: C22936
footprint 0603_R
pins: 1, 2

## Res 0603 2.2KΩ (2201) 1%
designator R?, comment 2.2KΩ
贴片电阻; ComponentLink1Description: 供应商链接; ComponentLink1URL: http://www.szlcsc.com/product/details_4597.html; Package: 0603; Supplier: LC; SuppliersPartNumber: C4190
footprint 0603_R
pins: 1, 2

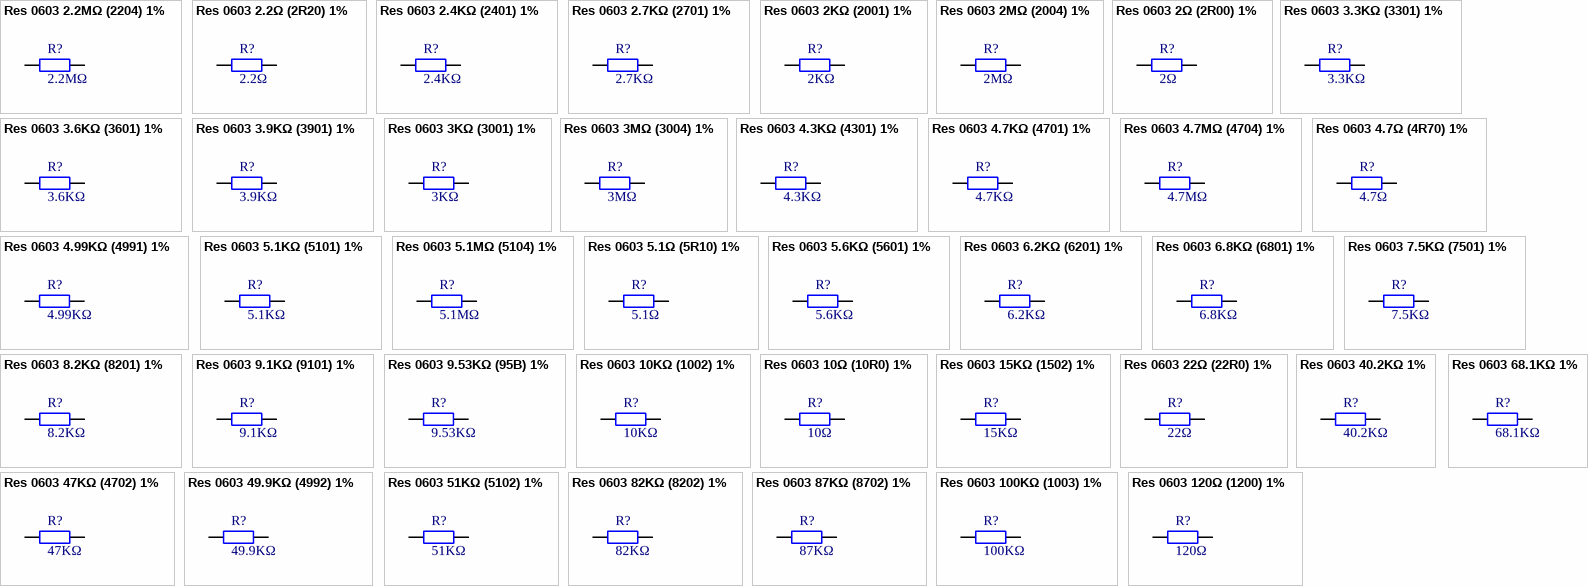
[diagram p3: symbols Res 0603 2.2MΩ (2204) 1% to Res 0603 120Ω (1200) 1%]

## Res 0603 2.2MΩ (2204) 1%
designator R?, comment 2.2MΩ
贴片电阻; ComponentLink1Description: 供应商链接; ComponentLink1URL: http://www.szlcsc.com/product/details_23665.html; Package: 0603; Supplier: LC; SuppliersPartNumber: C22938
footprint 0603_R
pins: 1, 2

## Res 0603 2.2Ω (2R20) 1%
designator R?, comment 2.2Ω
贴片电阻; ComponentLink1Description: 供应商链接; ComponentLink1URL: http://www.szlcsc.com/product/details_23666.html; Package: 0603; Supplier: LC; SuppliersPartNumber: C22939
footprint 0603_R
pins: 1, 2

## Res 0603 2.4KΩ (2401) 1%
designator R?, comment 2.4KΩ
贴片电阻; ComponentLink1Description: 供应商链接; ComponentLink1URL: http://www.szlcsc.com/product/details_23667.html; Package: 0603; Supplier: LC; SuppliersPartNumber: C22940
footprint 0603_R
pins: 1, 2

## Res 0603 2.7KΩ (2701) 1%
designator R?, comment 2.7KΩ
贴片电阻; ComponentLink1Description: 供应商链接; ComponentLink1URL: http://www.szlcsc.com/product/details_13814.html; Package: 0603; Supplier: LC; SuppliersPartNumber: C13167
footprint 0603_R
pins: 1, 2

## Res 0603 2KΩ (2001) 1%
designator R?, comment 2KΩ
贴片电阻; ComponentLink1Description: 供应商链接; ComponentLink1URL: http://www.szlcsc.com/product/details_23702.html; Package: 0603; Supplier: LC; SuppliersPartNumber: C22975
footprint 0603_R
pins: 1, 2

## Res 0603 2MΩ (2004) 1%
designator R?, comment 2MΩ
贴片电阻; ComponentLink1Description: 供应商链接; ComponentLink1URL: http://www.szlcsc.com/product/details_23703.html; Package: 0603; Supplier: LC; SuppliersPartNumber: C22976
footprint 0603_R
pins: 1, 2

## Res 0603 2Ω (2R00) 1%
designator R?, comment 2Ω
贴片电阻; ComponentLink1Description: 供应商链接; ComponentLink1URL: http://www.szlcsc.com/product/details_23704.html; Package: 0603; Supplier: LC; SuppliersPartNumber: C22977
footprint 0603_R
pins: 1, 2

## Res 0603 3.3KΩ (3301) 1%
designator R?, comment 3.3KΩ
贴片电阻; ComponentLink1Description: 供应商链接; ComponentLink1URL: http://www.szlcsc.com/product/details_23705.html; Package: 0603; Supplier: LC; SuppliersPartNumber: C22978
footprint 0603_R
pins: 1, 2

## Res 0603 3.6KΩ (3601) 1%
designator R?, comment 3.6KΩ
贴片电阻; ComponentLink1Description: 供应商链接; ComponentLink1URL: http://www.szlcsc.com/product/details_23707.html; Package: 0603; Supplier: LC; SuppliersPartNumber: C22980
footprint 0603_R
pins: 1, 2

## Res 0603 3.9KΩ (3901) 1%
designator R?, comment 3.9KΩ
贴片电阻; ComponentLink1Description: 供应商链接; ComponentLink1URL: http://www.szlcsc.com/product/details_23745.html; Package: 0603; Supplier: LC; SuppliersPartNumber: C23018
footprint 0603_R
pins: 1, 2

## Res 0603 3KΩ (3001) 1%
designator R?, comment 3KΩ
贴片电阻; ComponentLink1Description: 供应商链接; ComponentLink1URL: http://www.szlcsc.com/product/details_4618.html; Package: 0603; Supplier: LC; SuppliersPartNumber: C4211
footprint 0603_R
pins: 1, 2

## Res 0603 3MΩ (3004) 1%
designator R?, comment 3MΩ
贴片电阻; ComponentLink1Description: 供应商链接; ComponentLink1URL: http://www.szlcsc.com/product/details_23883.html; Package: 0603; Supplier: LC; SuppliersPartNumber: C23156
footprint 0603_R
pins: 1, 2

## Res 0603 4.3KΩ (4301) 1%
designator R?, comment 4.3KΩ
贴片电阻; ComponentLink1Description: 供应商链接; ComponentLink1URL: http://www.szlcsc.com/product/details_23886.html; Package: 0603; Supplier: LC; SuppliersPartNumber: C23159
footprint 0603_R
pins: 1, 2

## Res 0603 4.7KΩ (4701) 1%
designator R?, comment 4.7KΩ
贴片电阻; ComponentLink1Description: 供应商链接; ComponentLink1URL: http://www.szlcsc.com/product/details_23889.html; Package: 0603; Supplier: LC; SuppliersPartNumber: C23162
footprint 0603_R
pins: 1, 2

## Res 0603 4.7MΩ (4704) 1%
designator R?, comment 4.7MΩ
贴片电阻; ComponentLink1Description: 供应商链接; ComponentLink1URL: http://www.szlcsc.com/product/details_23890.html; Package: 0603; Supplier: LC; SuppliersPartNumber: C23163
footprint 0603_R
pins: 1, 2

## Res 0603 4.7Ω (4R70) 1%
designator R?, comment 4.7Ω
贴片电阻; ComponentLink1Description: 供应商链接; ComponentLink1URL: http://www.szlcsc.com/product/details_23891.html; Package: 0603; Supplier: LC; SuppliersPartNumber: C23164
footprint 0603_R
pins: 1, 2

## Res 0603 4.99KΩ (4991) 1%
designator R?, comment 4.99KΩ
贴片电阻; ComponentLink1Description: 供应商链接; ComponentLink1URL: http://www.szlcsc.com/product/details_23773.html; Package: 0603; Supplier: LC; SuppliersPartNumber: C23046
footprint 0603_R
pins: 1, 2

## Res 0603 5.1KΩ (5101) 1%
designator R?, comment 5.1KΩ
贴片电阻; ComponentLink1Description: 供应商链接; ComponentLink1URL: http://www.szlcsc.com/product/details_23913.html; Package: 0603; Supplier: LC; SuppliersPartNumber: C23186
footprint 0603_R
pins: 1, 2

## Res 0603 5.1MΩ (5104) 1%
designator R?, comment 5.1MΩ
贴片电阻; ComponentLink1Description: 供应商链接; ComponentLink1URL: http://www.szlcsc.com/product/details_13967.html; Package: 0603; Supplier: LC; SuppliersPartNumber: C13320
footprint 0603_R
pins: 1, 2

## Res 0603 5.1Ω (5R10) 1%
designator R?, comment 5.1Ω
贴片电阻; ComponentLink1Description: 供应商链接; ComponentLink1URL: http://www.szlcsc.com/product/details_25940.html; Package: 0603; Supplier: LC; SuppliersPartNumber: C25197
footprint 0603_R
pins: 1, 2

## Res 0603 5.6KΩ (5601) 1%
designator R?, comment 5.6KΩ
贴片电阻; ComponentLink1Description: 供应商链接; ComponentLink1URL: http://www.szlcsc.com/product/details_23916.html; Package: 0603; Supplier: LC; SuppliersPartNumber: C23189
footprint 0603_R
pins: 1, 2

## Res 0603 6.2KΩ (6201) 1%
designator R?, comment 6.2KΩ
贴片电阻; ComponentLink1Description: 供应商链接; ComponentLink1URL: http://www.szlcsc.com/product/details_4667.html; Package: 0603; Supplier: LC; SuppliersPartNumber: C4260
footprint 0603_R
pins: 1, 2

## Res 0603 6.8KΩ (6801) 1%
designator R?, comment 6.8KΩ
贴片电阻; ComponentLink1Description: 供应商链接; ComponentLink1URL: http://www.szlcsc.com/product/details_23939.html; Package: 0603; Supplier: LC; SuppliersPartNumber: C23212
footprint 0603_R
pins: 1, 2

## Res 0603 7.5KΩ (7501) 1%
designator R?, comment 7.5KΩ
贴片电阻; ComponentLink1Description: 供应商链接; ComponentLink1URL: http://www.szlcsc.com/product/details_23961.html; Package: 0603; Supplier: LC; SuppliersPartNumber: C23234
footprint 0603_R
pins: 1, 2

## Res 0603 8.2KΩ (8201) 1%
designator R?, comment 8.2KΩ
贴片电阻; ComponentLink1Description: 供应商链接; ComponentLink1URL: http://www.szlcsc.com/product/details_26724.html; Package: 0603; Supplier: LC; SuppliersPartNumber: C25981
footprint 0603_R
pins: 1, 2

## Res 0603 9.1KΩ (9101) 1%
designator R?, comment 9.1KΩ
贴片电阻; ComponentLink1Description: 供应商链接; ComponentLink1URL: http://www.szlcsc.com/product/details_23987.html; Package: 0603; Supplier: LC; SuppliersPartNumber: C23260
footprint 0603_R
pins: 1, 2

## Res 0603 9.53KΩ (95B) 1%
designator R?, comment 9.53KΩ
贴片电阻; ComponentLink1Description: 供应商链接; ComponentLink1URL: http://www.szlcsc.com/product/details_23886.html; Package: 0603; Supplier: LC; SuppliersPartNumber: C23159
footprint 0603_R
pins: 1, 2

## Res 0603 10KΩ (1002) 1%
designator R?, comment 10KΩ
贴片电阻; ComponentLink1Description: 供应商链接; ComponentLink1URL: http://www.szlcsc.com/product/details_26547.html; Package: 0603; Supplier: LC; SuppliersPartNumber: C25804
footprint 0603_R
pins: 1, 2

## Res 0603 10Ω (10R0) 1%
designator R?, comment 10Ω
贴片电阻; ComponentLink1Description: 供应商链接; ComponentLink1URL: http://www.szlcsc.com/product/details_23586.html; Package: 0603; Supplier: LC; SuppliersPartNumber: C22859
footprint 0603_R
pins: 1, 2

## Res 0603 15KΩ (1502) 1%
designator R?, comment 15KΩ
贴片电阻; ComponentLink1Description: 供应商链接; ComponentLink1URL: http://www.szlcsc.com/product/details_23536.html; Package: 0603; Supplier: LC; SuppliersPartNumber: C22809
footprint 0603_R
pins: 1, 2

## Res 0603 22Ω (22R0) 1%
designator R?, comment 22Ω
贴片电阻; ComponentLink1Description: 供应商链接; ComponentLink1URL: http://www.szlcsc.com/product/details_24078.html; Package: 0603; Supplier: LC; SuppliersPartNumber: C23345
footprint 0603_R
pins: 1, 2

## Res 0603 40.2KΩ 1%
designator R?, comment 40.2KΩ
贴片电阻; ComponentLink1Description: 供应商链接; ComponentLink1URL: http://www.szlcsc.com/product/details_23702.html; Package: 0603; Supplier: LC; SuppliersPartNumber: C22975
footprint 0603_R
pins: 1, 2

## Res 0603 47KΩ (4702) 1%
designator R?, comment 47KΩ
贴片电阻; ComponentLink1Description: 供应商链接; ComponentLink1URL: http://www.szlcsc.com/product/details_26562.html; Package: 0603; Supplier: LC; SuppliersPartNumber: C25819
footprint 0603_R
pins: 1, 2

## Res 0603 49.9KΩ (4992) 1%
designator R?, comment 49.9KΩ
贴片电阻; ComponentLink1Description: 供应商链接; ComponentLink1URL: http://www.szlcsc.com/product/details_23911.html; Package: 0603; Supplier: LC; SuppliersPartNumber: C23184
footprint 0603_R
pins: 1, 2

## Res 0603 51KΩ (5102) 1%
designator R?, comment 51KΩ
贴片电阻; ComponentLink1Description: 供应商链接; ComponentLink1URL: http://www.szlcsc.com/product/details_23923.html; Package: 0603; Supplier: LC; SuppliersPartNumber: C23196
footprint 0603_R
pins: 1, 2

## Res 0603 68.1KΩ 1%
designator R?, comment 68.1KΩ
贴片电阻; ComponentLink1Description: 供应商链接; ComponentLink1URL: http://www.szlcsc.com/product/details_23702.html; Package: 0603; Supplier: LC; SuppliersPartNumber: C22975
footprint 0603_R
pins: 1, 2

## Res 0603 82KΩ (8202) 1%
designator R?, comment 82KΩ
贴片电阻; ComponentLink1Description: 供应商链接; ComponentLink1URL: http://www.szlcsc.com/product/details_26724.html; Package: 0603; Supplier: LC; SuppliersPartNumber: C25981
footprint 0603_R
pins: 1, 2

## Res 0603 87KΩ (8702) 1%
designator R?, comment 87KΩ
贴片电阻; ComponentLink1Description: 供应商链接; ComponentLink1URL: http://www.szlcsc.com/product/details_26724.html; Package: 0603; Supplier: LC; SuppliersPartNumber: C25981
footprint 0603_R
pins: 1, 2

## Res 0603 100KΩ (1003) 1%
designator R?, comment 100KΩ
贴片电阻; ComponentLink1Description: 供应商链接; ComponentLink1URL: http://www.szlcsc.com/product/details_26546.html; Package: 0603; Supplier: LC; SuppliersPartNumber: C25803
footprint 0603_R
pins: 1, 2

## Res 0603 120Ω (1200) 1%
designator R?, comment 120Ω
贴片电阻; ComponentLink1Description: 供应商链接; ComponentLink1URL: http://www.szlcsc.com/product/details_23514.html; Package: 0603; Supplier: LC; SuppliersPartNumber: C22787
footprint 0603_R
pins: 1, 2

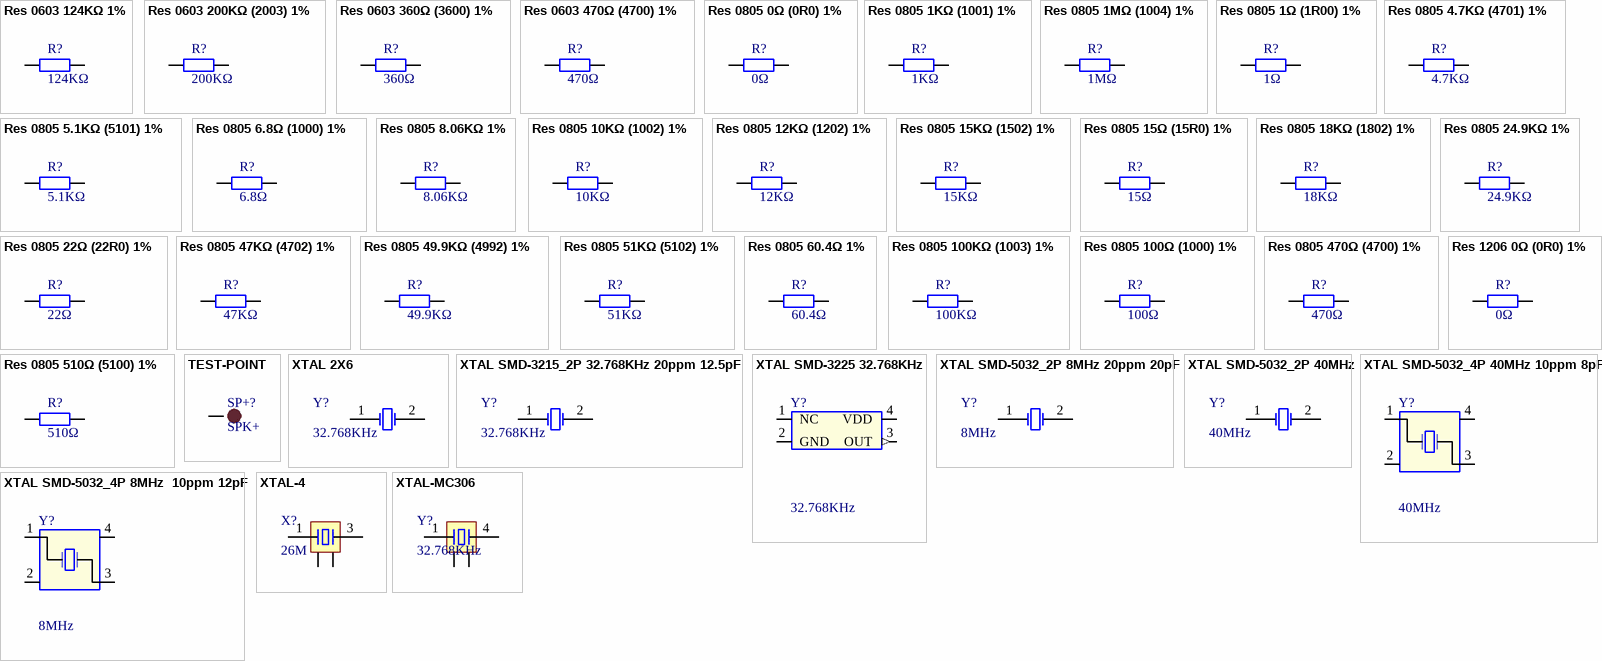
[diagram p4: symbols Res 0603 124KΩ 1% to XTAL-MC306]

## Res 0603 124KΩ 1%
designator R?, comment 124KΩ
贴片电阻; ComponentLink1Description: 供应商链接; ComponentLink1URL: http://www.szlcsc.com/product/details_23702.html; Package: 0603; Supplier: LC; SuppliersPartNumber: C22975
footprint 0603_R
pins: 1, 2

## Res 0603 200KΩ (2003) 1%
designator R?, comment 200KΩ
贴片电阻; ComponentLink1Description: 供应商链接; ComponentLink1URL: http://www.szlcsc.com/product/details_26554.html; Package: 0603; Supplier: LC; SuppliersPartNumber: C25811
footprint 0603_R
pins: 1, 2

## Res 0603 360Ω (3600) 1%
designator R?, comment 360Ω
贴片电阻; ComponentLink1Description: 供应商链接; ComponentLink1URL: http://www.szlcsc.com/product/details_25937.html; Package: 0603; Supplier: LC; SuppliersPartNumber: C25194
footprint 0603_R
pins: 1, 2

## Res 0603 470Ω (4700) 1%
designator R?, comment 470Ω
贴片电阻; ComponentLink1Description: 供应商链接; ComponentLink1URL: http://www.szlcsc.com/product/details_23906.html; Package: 0603; Supplier: LC; SuppliersPartNumber: C23179
footprint 0603_R
pins: 1, 2

## Res 0805 0Ω (0R0) 1%
designator R?, comment 0Ω
贴片电阻; ComponentLink1Description: 供应商链接; ComponentLink1URL: http://www.szlcsc.com/product/details_18165.html; Package: 0805; Supplier: LC; SuppliersPartNumber: C17477; Value: 0Ω
footprint 0805_R
pins: 1, 2

## Res 0805 1KΩ (1001) 1%
designator R?, comment 1KΩ
贴片电阻; ComponentLink1Description: 供应商链接; ComponentLink1URL: http://www.szlcsc.com/product/details_18201.html; Package: 0805; Supplier: LC; SuppliersPartNumber: C17513
footprint 0805_R
pins: 1, 2

## Res 0805 1MΩ (1004) 1%
designator R?, comment 1MΩ
贴片电阻; ComponentLink1Description: 供应商链接; ComponentLink1URL: http://www.szlcsc.com/product/details_18202.html; Package: 0805; Supplier: LC; SuppliersPartNumber: C17514
footprint 0805_R
pins: 1, 2

## Res 0805 1Ω (1R00) 1%
designator R?, comment 1Ω
贴片电阻; ComponentLink1Description: 供应商链接; ComponentLink1URL: http://www.szlcsc.com/product/details_26014.html; Package: 0805; Value: 1Ω
footprint 0805_R
pins: 1, 2

## Res 0805 4.7KΩ (4701) 1%
designator R?, comment 4.7KΩ
贴片电阻; ComponentLink1Description: 供应商链接; ComponentLink1URL: http://www.szlcsc.com/product/details_18361.html; Package: 0805; Supplier: LC; SuppliersPartNumber: C17673; Value: 4.7KΩ
footprint 0805_R
pins: 1, 2

## Res 0805 5.1KΩ (5101) 1%
designator R?, comment 5.1KΩ
贴片电阻; ComponentLink1Description: 供应商链接; ComponentLink1URL: http://www.szlcsc.com/product/details_28584.html; Package: 0805; Supplier: LC; SuppliersPartNumber: C27834; Value: 5.1KΩ
footprint 0805_R
pins: 1, 2

## Res 0805 6.8Ω (1000) 1%
designator R?, comment 6.8Ω
贴片电阻; ComponentLink1Description: 供应商链接; ComponentLink1URL: http://www.szlcsc.com/product/details_18096.html; Package: 0805; Supplier: LC; SuppliersPartNumber: C17408; Value: 6.8Ω
footprint 0805_R
pins: 1, 2

## Res 0805 8.06KΩ 1%
designator R?, comment 8.06KΩ
贴片电阻; ComponentLink1Description: 供应商链接; ComponentLink1URL: http://www.szlcsc.com/product/details_18263.html; Package: 0805; Supplier: LC; SuppliersPartNumber: C17575; Value: 8.06KΩ
footprint 0805_R
pins: 1, 2

## Res 0805 10KΩ (1002) 1%
designator R?, comment 10KΩ
贴片电阻; ComponentLink1Description: 供应商链接; ComponentLink1URL: http://www.szlcsc.com/product/details_18102.html; Package: 0805; Supplier: LC; SuppliersPartNumber: C17414; Value: 10KΩ
footprint 0805_R
pins: 1, 2

## Res 0805 12KΩ (1202) 1%
designator R?, comment 12KΩ
贴片电阻; ComponentLink1Description: 供应商链接; ComponentLink1URL: http://www.szlcsc.com/product/details_18132.html; Package: 0805; Supplier: LC; SuppliersPartNumber: C17444; Value: 12KΩ
footprint 0805_R
pins: 1, 2

## Res 0805 15KΩ (1502) 1%
designator R?, comment 15KΩ
贴片电阻; ComponentLink1Description: 供应商链接; ComponentLink1URL: http://www.szlcsc.com/product/details_18163.html; Package: 0805; Supplier: LC; SuppliersPartNumber: C17475
footprint 0805_R
pins: 1, 2

## Res 0805 15Ω (15R0) 1%
designator R?, comment 15Ω
贴片电阻; ComponentLink1Description: 供应商链接; ComponentLink1URL: http://www.szlcsc.com/product/details_18168.html; Package: 0805; Supplier: LC; SuppliersPartNumber: C17480; Value: 15Ω
footprint 0805_R
pins: 1, 2

## Res 0805 18KΩ (1802) 1%
designator R?, comment 18KΩ
贴片电阻; ComponentLink1Description: 供应商链接; ComponentLink1URL: http://www.szlcsc.com/product/details_18194.html; Package: 0805; Value: 18KΩ
footprint 0805_R
pins: 1, 2

## Res 0805 22Ω (22R0) 1%
designator R?, comment 22Ω
贴片电阻; ComponentLink1Description: 供应商链接; ComponentLink1URL: http://www.szlcsc.com/product/details_18249.html; Package: 0805; Supplier: LC; SuppliersPartNumber: C17561; Value: 22Ω
footprint 0805_R
pins: 1, 2

## Res 0805 24.9KΩ 1%
designator R?, comment 24.9KΩ
贴片电阻; ComponentLink1Description: 供应商链接; ComponentLink1URL: http://www.szlcsc.com/product/details_18263.html; Package: 0805; Supplier: LC; SuppliersPartNumber: C17575; Value: 24.9KΩ
footprint 0805_R
pins: 1, 2

## Res 0805 47KΩ (4702) 1%
designator R?, comment 47KΩ
贴片电阻; ComponentLink1Description: 供应商链接; ComponentLink1URL: http://www.szlcsc.com/product/details_18401.html; Package: 0805; Supplier: LC; SuppliersPartNumber: C17713
footprint 0805_R
pins: 1, 2

## Res 0805 49.9KΩ (4992) 1%
designator R?, comment 49.9KΩ
贴片电阻; ComponentLink1Description: 供应商链接; ComponentLink1URL: http://www.szlcsc.com/product/details_18407.html; Package: 0805; Supplier: LC; SuppliersPartNumber: C17719; Value: 49.9KΩ
footprint 0805_R
pins: 1, 2

## Res 0805 51KΩ (5102) 1%
designator R?, comment 51KΩ
贴片电阻; ComponentLink1Description: 供应商链接; ComponentLink1URL: http://www.szlcsc.com/product/details_18425.html; Package: 0805; Supplier: LC; SuppliersPartNumber: C17737; Value: 51KΩ
footprint 0805_R
pins: 1, 2

## Res 0805 60.4Ω 1%
designator R?, comment 60.4Ω
贴片电阻; ComponentLink1Description: 供应商链接; ComponentLink1URL: http://www.szlcsc.com/product/details_18249.html; Package: 0805; Supplier: LC; SuppliersPartNumber: C17561; Value: 60.4Ω
footprint 0805_R
pins: 1, 2

## Res 0805 100KΩ (1003) 1%
designator R?, comment 100KΩ
贴片电阻; ComponentLink1Description: 供应商链接; ComponentLink1URL: http://www.szlcsc.com/product/details_18095.html; Package: 0805; Supplier: LC; SuppliersPartNumber: C17407; Value: 100KΩ
footprint 0805_R
pins: 1, 2

## Res 0805 100Ω (1000) 1%
designator R?, comment 100Ω
贴片电阻; ComponentLink1Description: 供应商链接; ComponentLink1URL: http://www.szlcsc.com/product/details_18096.html; Package: 0805; Supplier: LC; SuppliersPartNumber: C17408; Value: 100Ω
footprint 0805_R
pins: 1, 2

## Res 0805 470Ω (4700) 1%
designator R?, comment 470Ω
贴片电阻; ComponentLink1Description: 供应商链接; ComponentLink1URL: http://www.szlcsc.com/product/details_18398.html; Package: 0805; Supplier: LC; SuppliersPartNumber: C17710; Value: 470Ω
footprint 0805_R
pins: 1, 2

## Res 0805 510Ω (5100) 1%
designator R?, comment 510Ω
贴片电阻; ComponentLink1Description: 供应商链接; ComponentLink1URL: http://www.szlcsc.com/product/details_18422.html; Package: 0805; Supplier: LC; SuppliersPartNumber: C17734; Value: 510Ω
footprint 0805_R
pins: 1, 2

## Res 1206 0Ω (0R0) 1%
designator R?, comment 0Ω
贴片电阻; ComponentLink1Description: 供应商链接; ComponentLink1URL: http://www.szlcsc.com/product/details_18576.html; Package: 1206; Supplier: LC; SuppliersPartNumber: C17888
footprint 1206_R
pins: 1, 2

## TEST-POINT
designator SP+?, comment SPK+
测试点
footprint TP-SM-C-100 (Test Point, Surface Mounting, Circular, Pad Diameter 1mm)
footprint TP-SM-C-150
pins: 1

## XTAL 2X6
designator Y?, comment 32.768KHz
圆柱直插晶振; ComponentLink1Description: 供应商链接; ComponentLink1URL: http://www.szlcsc.com/product/details_33310.html; Package: SMD-3215_2P; Supplier: LC; SuppliersPartNumber: C32346
footprint XTAL-2X6
pins: 1 OSC1, 2 OSC2

## XTAL SMD-3215_2P 32.768KHz 20ppm 12.5pF
designator Y?, comment 32.768KHz
贴片晶振; ComponentLink1Description: 供应商链接; ComponentLink1URL: http://www.szlcsc.com/product/details_33310.html; Package: SMD-3215_2P; Supplier: LC; SuppliersPartNumber: C32346
footprint XTAL-3215/F135
pins: 1 OSC1, 2 OSC2

## XTAL SMD-3225 32.768KHz
designator Y?, comment 32.768KHz
有源贴片晶振; CLASS: IC
footprint XTAL-3225-4P (3.2*2.5*0.7mm(长宽高))
pins: 1 NC, 2 GND (power), 3 OUT (out), 4 VDD (power)

## XTAL SMD-5032_2P 8MHz 20ppm 20pF
designator Y?, comment 8MHz
贴片晶振; ComponentLink1Description: 供应商链接; ComponentLink1URL: http://www.szlcsc.com/product/details_117214.html; Package: SMD-5032_2P; Supplier: LC; SuppliersPartNumber: C115962
footprint SMD-5032_2P
pins: 1 OSC1, 2 OSC2

## XTAL SMD-5032_2P 40MHz
designator Y?, comment 40MHz
贴片晶振; ComponentLink1Description: 供应商链接; ComponentLink1URL: http://www.szlcsc.com/product/details_117214.html; Package: SMD-5032_2P
footprint SMD-5032_2P
pins: 1 OSC1, 2 OSC2

## XTAL SMD-5032_4P 8MHz  10ppm 12pF
designator Y?, comment 8MHz
贴片晶振; 402F40012IKR; 8MHz 10ppm 20pF -40C +85C; CLASS: IC
footprint XTAL-5032-4P
pins: 1, 2, 3, 4

## XTAL SMD-5032_4P 40MHz 10ppm 8pF
designator Y?, comment 40MHz
贴片晶振; 402F40012IKR; 40MHz 10ppm 8pF -40C +85C; CLASS: IC
footprint SMD-5032_4P
pins: 1, 2, 3, 4

## XTAL-4
designator X?, comment 26M
4脚晶振; 版权归属: 源创客; BOM名称: 4脚晶振; 学习资源: www.ooocke.com
footprint XTAL-5032
footprint XTAL-3225
pins: 1, 2, 3, 4

## XTAL-MC306
designator Y?, comment 32.768KHz
4脚晶振; 版权归属: 源创客; BOM名称: 4脚晶振; 学习资源: www.ooocke.com
footprint OSC MC-306 (8mm*3.2mm*2.54mm(长*宽*高))
pins: 1, 2, 3, 4